# EAGLE library part F1C100S (library F1C100S)
F1C100s Processor Source: Datasheet <https://linux-sunxi.org/images/b/ba/F1C100s_Datasheet_V1.0.pdf>
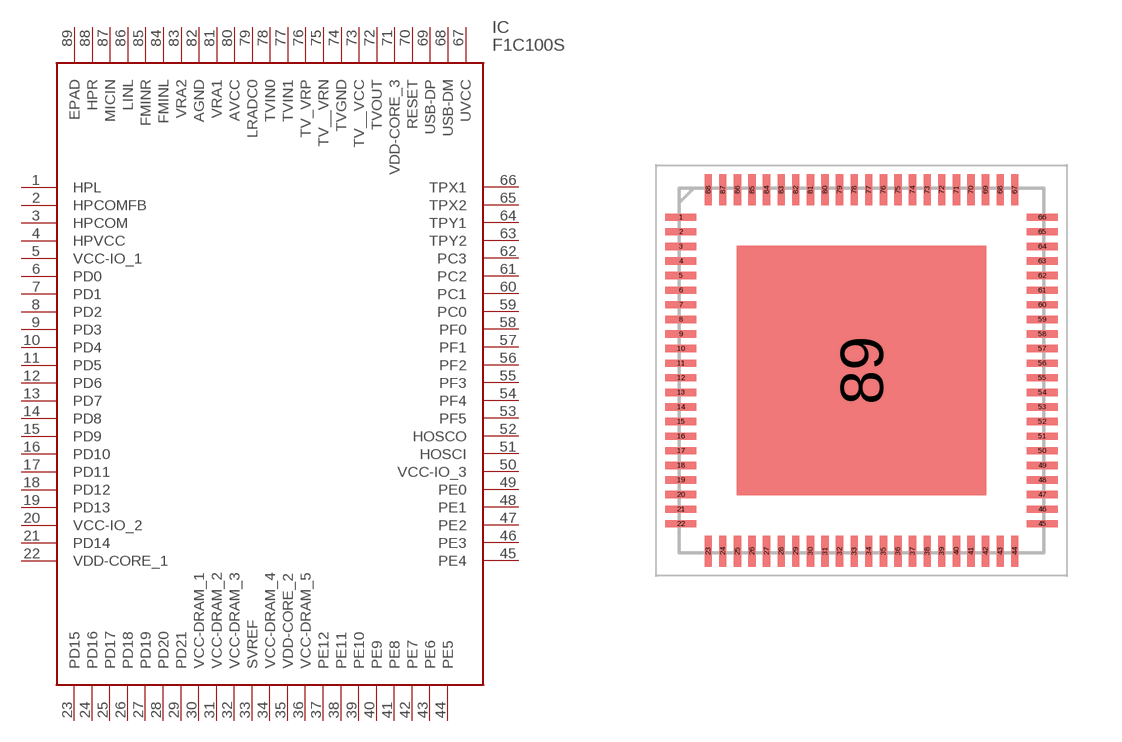
[diagram p0: symbol with the pads of QFN40P1000X1000X90-89N; footprint QFN40P1000X1000X90-89N]

Designator prefix IC

## F1C100S (Description: F1C100s Processor; Height: 0.9mm; Manufacturer_Name: Allwinner Technology; Manufacturer_Part_Number: F1C100S)  [QFN40P1000X1000X90-89N]
1  HPL
2  HPCOMFB
3  HPCOM
4  HPVCC
5  VCC-IO_1
6  PD0
7  PD1
8  PD2
9  PD3
10  PD4
11  PD5
12  PD6
13  PD7
14  PD8
15  PD9
16  PD10
17  PD11
18  PD12
19  PD13
20  VCC-IO_2
21  PD14
22  VDD-CORE_1
23  PD15
24  PD16
25  PD17
26  PD18
27  PD19
28  PD20
29  PD21
30  VCC-DRAM_1
31  VCC-DRAM_2
32  VCC-DRAM_3
33  SVREF
34  VCC-DRAM_4
35  VDD-CORE_2
36  VCC-DRAM_5
37  PE12
38  PE11
39  PE10
40  PE9
41  PE8
42  PE7
43  PE6
44  PE5
45  PE4
46  PE3
47  PE2
48  PE1
49  PE0
50  VCC-IO_3
51  HOSCI
52  HOSCO
53  PF5
54  PF4
55  PF3
56  PF2
57  PF1
58  PF0
59  PC0
60  PC1
61  PC2
62  PC3
63  TPY2
64  TPY1
65  TPX2
66  TPX1
67  UVCC
68  USB-DM
69  USB-DP
70  RESET
71  VDD-CORE_3
72  TVOUT
73  TV__VCC
74  TVGND
75  TV__VRN
76  TV_VRP
77  TVIN1
78  TVIN0
79  LRADC0
80  AVCC
81  VRA1
82  AGND
83  VRA2
84  FMINL
85  FMINR
86  LINL
87  MICIN
88  HPR
89  EPAD

## Footprint QFN40P1000X1000X90-89N (pad centres in mm)
F1C100S
smd 0.85 x 0.2: 1 -4.95,4.2; 2 -4.95,3.8; 3 -4.95,3.4; 4 -4.95,3; 5 -4.95,2.6; 6 -4.95,2.2; 7 -4.95,1.8; 8 -4.95,1.4; 9 -4.95,1; 10 -4.95,0.6; 11 -4.95,0.2; 12 -4.95,-0.2; 13 -4.95,-0.6; 14 -4.95,-1; 15 -4.95,-1.4; 16 -4.95,-1.8; 17 -4.95,-2.2; 18 -4.95,-2.6; 19 -4.95,-3; 20 -4.95,-3.4; 21 -4.95,-3.8; 22 -4.95,-4.2; 45 4.95,-4.2; 46 4.95,-3.8; 47 4.95,-3.4; 48 4.95,-3; 49 4.95,-2.6; 50 4.95,-2.2; 51 4.95,-1.8; 52 4.95,-1.4; 53 4.95,-1; 54 4.95,-0.6; 55 4.95,-0.2; 56 4.95,0.2; 57 4.95,0.6; 58 4.95,1; 59 4.95,1.4; 60 4.95,1.8; 61 4.95,2.2; 62 4.95,2.6; 63 4.95,3; 64 4.95,3.4; 65 4.95,3.8; 66 4.95,4.2
smd 0.2 x 0.85: 23 -4.2,-4.95; 24 -3.8,-4.95; 25 -3.4,-4.95; 26 -3,-4.95; 27 -2.6,-4.95; 28 -2.2,-4.95; 29 -1.8,-4.95; 30 -1.4,-4.95; 31 -1,-4.95; 32 -0.6,-4.95; 33 -0.2,-4.95; 34 0.2,-4.95; 35 0.6,-4.95; 36 1,-4.95; 37 1.4,-4.95; 38 1.8,-4.95; 39 2.2,-4.95; 40 2.6,-4.95; 41 3,-4.95; 42 3.4,-4.95; 43 3.8,-4.95; 44 4.2,-4.95; 67 4.2,4.95; 68 3.8,4.95; 69 3.4,4.95; 70 3,4.95; 71 2.6,4.95; 72 2.2,4.95; 73 1.8,4.95; 74 1.4,4.95; 75 1,4.95; 76 0.6,4.95; 77 0.2,4.95; 78 -0.2,4.95; 79 -0.6,4.95; 80 -1,4.95; 81 -1.4,4.95; 82 -1.8,4.95; 83 -2.2,4.95; 84 -2.6,4.95; 85 -3,4.95; 86 -3.4,4.95; 87 -3.8,4.95; 88 -4.2,4.95
smd 6.84 x 6.84: 89 0,0